# Altium footprint library onsemi.PcbLib: 10 footprints
Each footprint in its own frame and in the unit in brackets; x right, y up, seen from the top. Pads: shape width x height; smd on the part's side, far side on the other; paste and mask are expansions set on the pad; w line width, h text height; cw(c..) or ccw(c..) is an arc to the next point about the centre after c.
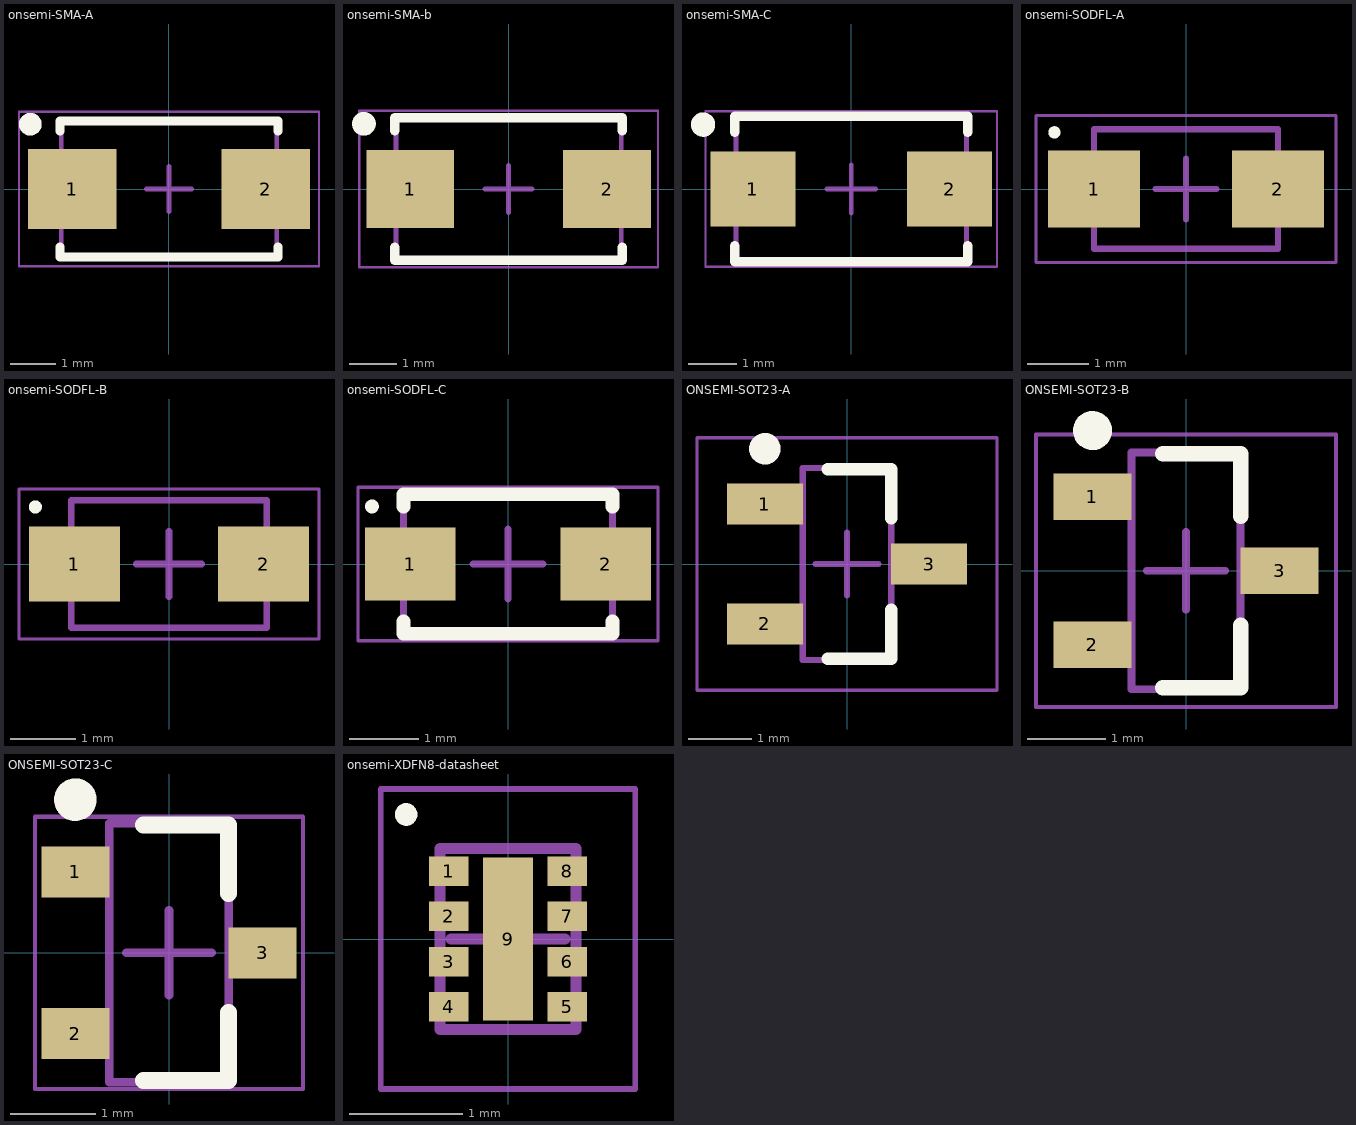
[diagram p0: the footprints below, top view; thin cyan lines are the x and y axes]

## onsemi-SMA-A [mm] "SODFL, 2-Leads, Body 2.73x5.20mm, IPC Low Density"
height 2.5
pads (2):
  rect 1.95x1.75 smd: 1(-2.125,0) 2(2.125,0)
Top Overlay:
  circle w0.25: c-3.05,1.425 r0.125
  lines w0.2: -2.4,-1.275 -2.4,-1.5 2.4,-1.5 2.4,-1.275 ; -2.4,1.275 -2.4,1.5 2.4,1.5 2.4,1.275
Mechanical 13:
  lines w0.1: -2.375,-1.475 2.375,-1.475 2.375,1.475 -2.375,1.475 -2.375,-1.475
Mechanical 15:
  lines w0.05: -3.3,-1.7 3.3,-1.7 3.3,1.7 -3.3,1.7 -3.3,-1.7
  lines w0.1: -0.5,0 0.5,0 ; 0,-0.5 0,0.5
3D body "Diode_ON_Semiconductor_SS14_eec.STEP": height 0.25, standoff 0, extent -3.575,-1.575 3.575,1.575

## onsemi-SMA-b [mm] "SODFL, 2-Leads, Body 2.73x5.20mm, IPC Medium Density"
height 2.5
pads (2):
  rect 1.85x1.65 smd: 1(-2.075,0) 2(2.075,0)
Top Overlay:
  circle w0.25: c-3.05,1.375 r0.125
  lines w0.2: -2.4,-1.225 -2.4,-1.5 2.4,-1.5 2.4,-1.225 ; -2.4,1.225 -2.4,1.5 2.4,1.5 2.4,1.225
Mechanical 13:
  lines w0.1: -2.375,-1.475 2.375,-1.475 2.375,1.475 -2.375,1.475 -2.375,-1.475
Mechanical 15:
  lines w0.05: -3.15,-1.65 3.15,-1.65 3.15,1.65 -3.15,1.65 -3.15,-1.65
  lines w0.1: -0.5,0 0.5,0 ; 0,-0.5 0,0.5
3D body "Diode_ON_Semiconductor_SS14_eec.STEP": height 0.25, standoff 0, extent -3.575,-1.575 3.575,1.575

## onsemi-SMA-C [mm] "SODFL, 2-Leads, Body 2.73x5.20mm, IPC High Density"
height 2.5
pads (2):
  rect 1.75x1.55 smd: 1(-2.025,0) 2(2.025,0)
Top Overlay:
  circle w0.25: c-3.05,1.325 r0.125
  lines w0.2: -2.4,-1.175 -2.4,-1.5 2.4,-1.5 2.4,-1.175 ; -2.4,1.175 -2.4,1.5 2.4,1.5 2.4,1.175
Mechanical 13:
  lines w0.1: -2.375,-1.475 2.375,-1.475 2.375,1.475 -2.375,1.475 -2.375,-1.475
Mechanical 15:
  lines w0.05: -3,-1.6 3,-1.6 3,1.6 -3,1.6 -3,-1.6
  lines w0.1: -0.5,0 0.5,0 ; 0,-0.5 0,0.5
3D body "Diode_ON_Semiconductor_SS14_eec.STEP": height 0.25, standoff 0, extent -3.575,-1.575 3.575,1.575

## onsemi-SODFL-A [mm] "SODFL, 2-Leads, Body 1.73x3.60mm, IPC Low Density"
height 1.08
pads (2):
  rect 1.5x1.25 smd: 1(-1.5,0) 2(1.5,0)
Top Overlay:
  circle w0.1: c-2.15,0.925 r0.05
Mechanical 13:
  lines w0.1: -1.5,-0.975 -1.5,0.975 1.5,0.975 1.5,-0.975 -1.5,-0.975
Mechanical 15:
  lines w0.05: -2.45,-1.2 -2.45,1.2 2.45,1.2 2.45,-1.2 -2.45,-1.2
  lines w0.1: -0.5,0 0.5,0 ; 0,-0.5 0,0.5
3D body "onsemi-SODFL-A.step": height 1.08, standoff 0, extent -1.8,-0.975 1.8,0.975

## onsemi-SODFL-B [mm] "SODFL, 2-Leads, Body 1.73x3.60mm, IPC Medium Density"
height 1.08
pads (2):
  rect 1.4x1.15 smd: 1(-1.45,0) 2(1.45,0)
Top Overlay:
  circle w0.1: c-2.05,0.875 r0.05
Mechanical 13:
  lines w0.1: -1.5,-0.975 -1.5,0.975 1.5,0.975 1.5,-0.975 -1.5,-0.975
Mechanical 15:
  lines w0.05: -2.3,-1.15 -2.3,1.15 2.3,1.15 2.3,-1.15 -2.3,-1.15
  lines w0.1: -0.5,0 0.5,0 ; 0,-0.5 0,0.5
3D body "onsemi-SODFL-B.step": height 1.08, standoff 0, extent -1.8,-0.975 1.8,0.975

## onsemi-SODFL-C [mm] "SODFL, 2-Leads, Body 1.73x3.60mm, IPC High Density"
height 1.08
pads (2):
  rect 1.3x1.05 smd: 1(-1.4,0) 2(1.4,0)
Top Overlay:
  circle w0.1: c-1.95,0.825 r0.05
  lines w0.2: -1.5,-0.825 -1.5,-1 1.5,-1 1.5,-0.825 ; -1.5,0.825 -1.5,1 1.5,1 1.5,0.825
Mechanical 13:
  lines w0.1: -1.5,-0.975 -1.5,0.975 1.5,0.975 1.5,-0.975 -1.5,-0.975
Mechanical 15:
  lines w0.05: -2.15,-1.1 -2.15,1.1 2.15,1.1 2.15,-1.1 -2.15,-1.1
  lines w0.1: -0.5,0 0.5,0 ; 0,-0.5 0,0.5
3D body "onsemi-SODFL-C.step": height 1.08, standoff 0, extent -1.8,-0.975 1.8,0.975

## ONSEMI-SOT23-A [mm] "SOT23, 3-Leads, Body 2.92x2.37mm, Pitch 0.95mm, IPC Low Density"
height 1.11
pads (3):
  rect 1.2x0.65 smd: 1(-1.3,0.95) 2(-1.3,-0.95) 3(1.3,0)
Top Overlay:
  circle w0.25: c-1.3,1.825 r0.125
  lines w0.2: -0.3,-1.5 0.7,-1.5 0.7,-0.725 ; -0.3,1.5 0.7,1.5 0.7,0.725
Mechanical 13:
  lines w0.1: -0.7,-1.52 -0.7,1.52 0.7,1.52 0.7,-1.52 -0.7,-1.52
Mechanical 15:
  lines w0.05: -2.375,-2 -2.375,2 2.375,2 2.375,-2 -2.375,-2
  lines w0.1: -0.5,0 0.5,0 ; 0,-0.5 0,0.5
3D body "ONSEMI-SOT23-A.step": height 1.11, standoff 0, extent -1.32,-1.52 1.32,1.52

## ONSEMI-SOT23-B [mm] "SOT23, 3-Leads, Body 2.92x2.37mm, Pitch 0.95mm, IPC Medium Density"
height 1.11
pads (3):
  rect 1x0.6 smd: 1(-1.2,0.95) 2(-1.2,-0.95) 3(1.2,0)
Top Overlay:
  circle w0.25: c-1.2,1.8 r0.125
  lines w0.2: -0.3,-1.5 0.7,-1.5 0.7,-0.7 ; -0.3,1.5 0.7,1.5 0.7,0.7
Mechanical 13:
  lines w0.1: -0.7,-1.52 -0.7,1.52 0.7,1.52 0.7,-1.52 -0.7,-1.52
Mechanical 15:
  lines w0.05: -1.925,-1.75 -1.925,1.75 1.925,1.75 1.925,-1.75 -1.925,-1.75
  lines w0.1: -0.5,0 0.5,0 ; 0,-0.5 0,0.5
3D body "ONSEMI-SOT23-B.step": height 1.11, standoff 0, extent -1.32,-1.52 1.32,1.52

## ONSEMI-SOT23-C [mm] "SOT23, 3-Leads, Body 2.92x2.37mm, Pitch 0.95mm, IPC High Density"
height 1.11
pads (3):
  rect 0.8x0.6 smd: 1(-1.1,0.95) 2(-1.1,-0.95) 3(1.1,0)
Top Overlay:
  circle w0.25: c-1.1,1.8 r0.125
  lines w0.2: -0.3,-1.5 0.7,-1.5 0.7,-0.7 ; -0.3,1.5 0.7,1.5 0.7,0.7
Mechanical 13:
  lines w0.1: -0.7,-1.52 -0.7,1.52 0.7,1.52 0.7,-1.52 -0.7,-1.52
Mechanical 15:
  lines w0.05: -1.575,-1.6 -1.575,1.6 1.575,1.6 1.575,-1.6 -1.575,-1.6
  lines w0.1: -0.5,0 0.5,0 ; 0,-0.5 0,0.5
3D body "ONSEMI-SOT23-C.step": height 1.11, standoff 0, extent -1.32,-1.52 1.32,1.52

## onsemi-XDFN8-datasheet [mm] "PQFN, 8-Leads, Body 1.20x1.60mm, Pitch 0.40mm, Thermal Pad 0.44x1.44mm, recomended footprint in datasheet"
height 0.45
pads (9):
  rect 0.35x0.26 smd: 1(-0.525,0.6) 2(-0.525,0.2) 3(-0.525,-0.2) 4(-0.525,-0.6) 5(0.525,-0.6) 6(0.525,-0.2) 7(0.525,0.2) 8(0.525,0.6)
  rect 0.44x1.44 smd: 9(0,0)
Top Overlay:
  circle w0.1: c-0.9,1.1 r0.05
Mechanical 13:
  lines w0.1: -0.6,-0.8 -0.6,0.8 0.6,0.8 0.6,-0.8 -0.6,-0.8
Mechanical 15:
  lines w0.05: -1.125,-1.325 -1.125,1.325 1.125,1.325 1.125,-1.325 -1.125,-1.325
  lines w0.1: -0.5,0 0.5,0 ; 0,-0.5 0,0.5
3D body "onsemi-XDFN8-datasheet.step": height 0.45, standoff 0, extent -0.6,-0.8 0.6,0.8